# EAGLE library part BPM2417SJ (library Labops_Lib_AH)
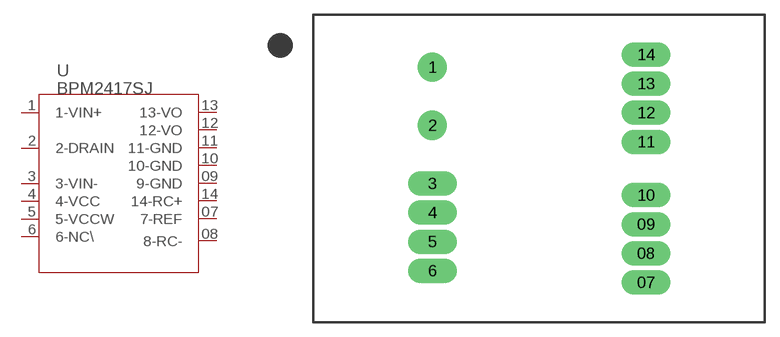
[diagram p69: symbol with the pads of BPM2417SJ; footprint BPM2417SJ]

Designator prefix U

## BPM2417SJ (DESCRIPTION: Ac/Dc Power Supply Module; LIB_STATUS: Prototype; MFN: BPM2417SJ; MFR: Tamura; OUR_STOCK: 5; PART_VALUE: Power Sources; PRICE-1: 7.00; SUPPLIER-1: Digikey)  [BPM2417SJ]
1  1-VIN+
2  2-DRAIN
3  3-VIN-
4  4-VCC
5  5-VCCW
6  6-NC\
07  7-REF
08  8-RC-
09  9-GND
10  10-GND
11  11-GND
12  12-VO
13  13-VO
14  14-RC+

## Footprint BPM2417SJ (pad centres in mm)
drill 1.5 pad 3: 1 -11,10.45; 2 -11,4.45
drill 1.5 pad 2.5 long: 3 -11,-1.55; 4 -11,-4.55; 5 -11,-7.55; 6 -11,-10.55; 07 11,-11.75; 08 11,-8.75; 09 11,-5.75; 10 11,-2.75; 11 11,2.75; 12 11,5.75; 13 11,8.75; 14 11,11.75